# Altium integrated library RCP0603W200RGEB.IntLib: 1 symbol
Pins are listed as number, name and electrical type; pins without a type are passive.

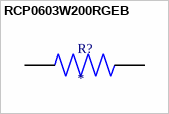
[diagram p0: symbol RCP0603W200RGEB]

## RCP0603W200RGEB
designator R?
RES SMD 200 OHM 2% 3.9W 0603; MP: RCP0603W200RGEB; Package: None; Price: None; Value: *; Availability: Unavailable
footprint RESC1608X59N
pins: 1, 2